# EAGLE library part TWR (library freescale)
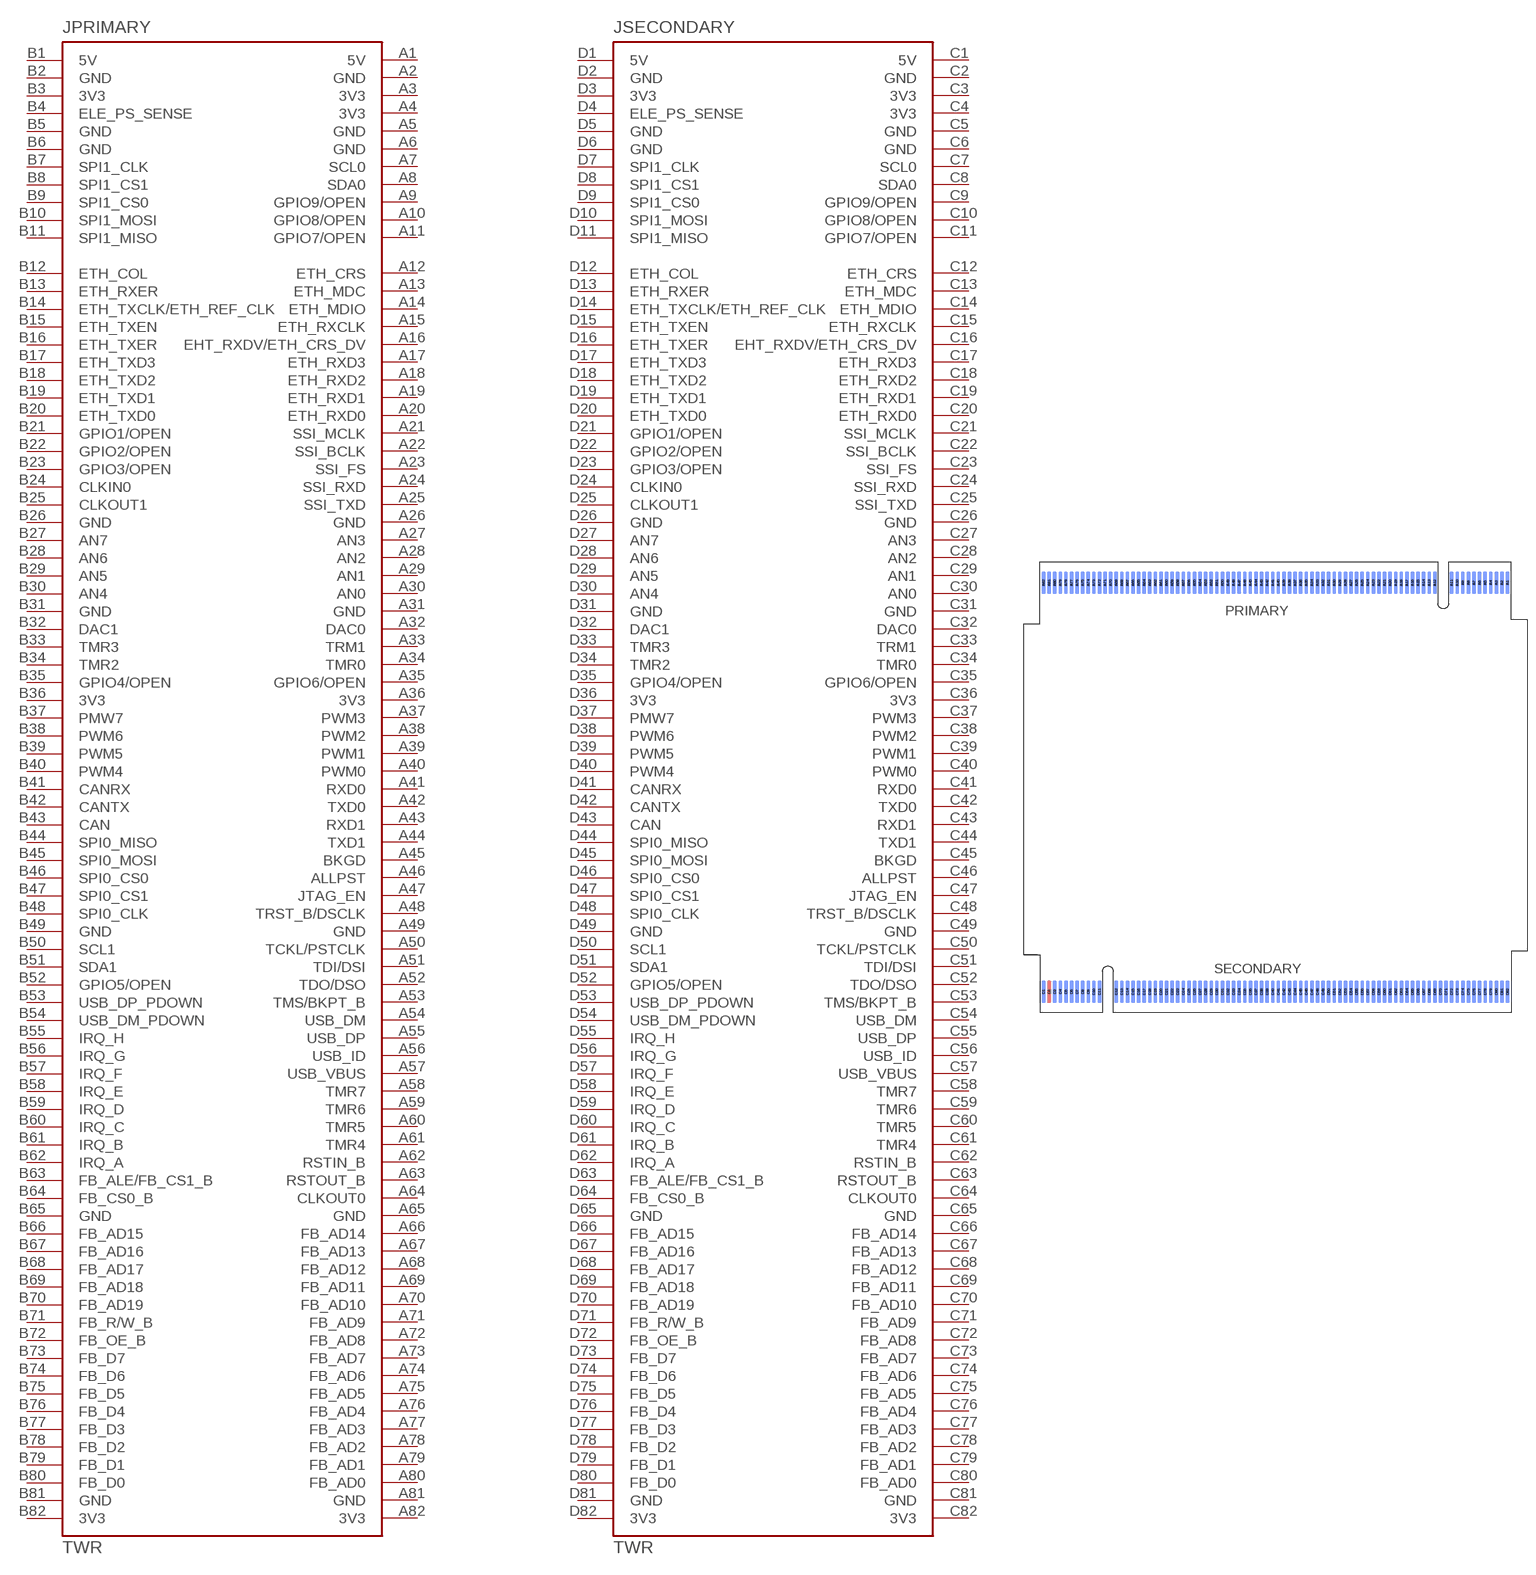
[diagram p10: symbol with the pads of TWR; footprint TWR]

Designator prefix J; gates PRIMARY=PCI-E SECONDARY=PCI-E

## TWR  [TWR]
A1  PRIMARY:5V  pas
A2  PRIMARY:GND  pas
A3  PRIMARY:3V3  pas
A4  PRIMARY:3V3  pas
A5  PRIMARY:GND  pas
A6  PRIMARY:GND  pas
A7  PRIMARY:SCL0  pas
A8  PRIMARY:SDA0  pas
A9  PRIMARY:GPIO9/OPEN  pas
A10  PRIMARY:GPIO8/OPEN  pas
A11  PRIMARY:GPIO7/OPEN  pas
A12  PRIMARY:ETH_CRS  pas
A13  PRIMARY:ETH_MDC  pas
A14  PRIMARY:ETH_MDIO  pas
A15  PRIMARY:ETH_RXCLK  pas
A16  PRIMARY:EHT_RXDV/ETH_CRS_DV  pas
A17  PRIMARY:ETH_RXD3  pas
A18  PRIMARY:ETH_RXD2  pas
A19  PRIMARY:ETH_RXD1  pas
A20  PRIMARY:ETH_RXD0  pas
A21  PRIMARY:SSI_MCLK  pas
A22  PRIMARY:SSI_BCLK  pas
A23  PRIMARY:SSI_FS  pas
A24  PRIMARY:SSI_RXD  pas
A25  PRIMARY:SSI_TXD  pas
A26  PRIMARY:GND  pas
A27  PRIMARY:AN3  pas
A28  PRIMARY:AN2  pas
A29  PRIMARY:AN1  pas
A30  PRIMARY:AN0  pas
A31  PRIMARY:GND  pas
A32  PRIMARY:DAC0  pas
A33  PRIMARY:TRM1  pas
A34  PRIMARY:TMR0  pas
A35  PRIMARY:GPIO6/OPEN  pas
A36  PRIMARY:3V3  pas
A37  PRIMARY:PWM3  pas
A38  PRIMARY:PWM2  pas
A39  PRIMARY:PWM1  pas
A40  PRIMARY:PWM0  pas
A41  PRIMARY:RXD0  pas
A42  PRIMARY:TXD0  pas
A43  PRIMARY:RXD1  pas
A44  PRIMARY:TXD1  pas
A45  PRIMARY:BKGD  pas
A46  PRIMARY:ALLPST  pas
A47  PRIMARY:JTAG_EN  pas
A48  PRIMARY:TRST_B/DSCLK  pas
A49  PRIMARY:GND  pas
A50  PRIMARY:TCKL/PSTCLK  pas
A51  PRIMARY:TDI/DSI  pas
A52  PRIMARY:TDO/DSO  pas
A53  PRIMARY:TMS/BKPT_B  pas
A54  PRIMARY:USB_DM  pas
A55  PRIMARY:USB_DP  pas
A56  PRIMARY:USB_ID  pas
A57  PRIMARY:USB_VBUS  pas
A58  PRIMARY:TMR7  pas
A59  PRIMARY:TMR6  pas
A60  PRIMARY:TMR5  pas
A61  PRIMARY:TMR4  pas
A62  PRIMARY:RSTIN_B  pas
A63  PRIMARY:RSTOUT_B  pas
A64  PRIMARY:CLKOUT0  pas
A65  PRIMARY:GND  pas
A66  PRIMARY:FB_AD14  pas
A67  PRIMARY:FB_AD13  pas
A68  PRIMARY:FB_AD12  pas
A69  PRIMARY:FB_AD11  pas
A70  PRIMARY:FB_AD10  pas
A71  PRIMARY:FB_AD9  pas
A72  PRIMARY:FB_AD8  pas
A73  PRIMARY:FB_AD7  pas
A74  PRIMARY:FB_AD6  pas
A75  PRIMARY:FB_AD5  pas
A76  PRIMARY:FB_AD4  pas
A77  PRIMARY:FB_AD3  pas
A78  PRIMARY:FB_AD2  pas
A79  PRIMARY:FB_AD1  pas
A80  PRIMARY:FB_AD0  pas
A81  PRIMARY:GND  pas
A82  PRIMARY:3V3  pas
B1  PRIMARY:5V  pas
B2  PRIMARY:GND  pas
B3  PRIMARY:3V3  pas
B4  PRIMARY:ELE_PS_SENSE  pas
B5  PRIMARY:GND  pas
B6  PRIMARY:GND  pas
B7  PRIMARY:SPI1_CLK  pas
B8  PRIMARY:SPI1_CS1  pas
B9  PRIMARY:SPI1_CS0  pas
B10  PRIMARY:SPI1_MOSI  pas
B11  PRIMARY:SPI1_MISO  pas
B12  PRIMARY:ETH_COL  pas
B13  PRIMARY:ETH_RXER  pas
B14  PRIMARY:ETH_TXCLK/ETH_REF_CLK  pas
B15  PRIMARY:ETH_TXEN  pas
B16  PRIMARY:ETH_TXER  pas
B17  PRIMARY:ETH_TXD3  pas
B18  PRIMARY:ETH_TXD2  pas
B19  PRIMARY:ETH_TXD1  pas
B20  PRIMARY:ETH_TXD0  pas
B21  PRIMARY:GPIO1/OPEN  pas
B22  PRIMARY:GPIO2/OPEN  pas
B23  PRIMARY:GPIO3/OPEN  pas
B24  PRIMARY:CLKIN0  pas
B25  PRIMARY:CLKOUT1  pas
B26  PRIMARY:GND  pas
B27  PRIMARY:AN7  pas
B28  PRIMARY:AN6  pas
B29  PRIMARY:AN5  pas
B30  PRIMARY:AN4  pas
B31  PRIMARY:GND  pas
B32  PRIMARY:DAC1  pas
B33  PRIMARY:TMR3  pas
B34  PRIMARY:TMR2  pas
B35  PRIMARY:GPIO4/OPEN  pas
B36  PRIMARY:3V3  pas
B37  PRIMARY:PMW7  pas
B38  PRIMARY:PWM6  pas
B39  PRIMARY:PWM5  pas
B40  PRIMARY:PWM4  pas
B41  PRIMARY:CANRX  pas
B42  PRIMARY:CANTX  pas
B43  PRIMARY:CAN  pas
B44  PRIMARY:SPI0_MISO  pas
B45  PRIMARY:SPI0_MOSI  pas
B46  PRIMARY:SPI0_CS0  pas
B47  PRIMARY:SPI0_CS1  pas
B48  PRIMARY:SPI0_CLK  pas
B49  PRIMARY:GND  pas
B50  PRIMARY:SCL1  pas
B51  PRIMARY:SDA1  pas
B52  PRIMARY:GPIO5/OPEN  pas
B53  PRIMARY:USB_DP_PDOWN  pas
B54  PRIMARY:USB_DM_PDOWN  pas
B55  PRIMARY:IRQ_H  pas
B56  PRIMARY:IRQ_G  pas
B57  PRIMARY:IRQ_F  pas
B58  PRIMARY:IRQ_E  pas
B59  PRIMARY:IRQ_D  pas
B60  PRIMARY:IRQ_C  pas
B61  PRIMARY:IRQ_B  pas
B62  PRIMARY:IRQ_A  pas
B63  PRIMARY:FB_ALE/FB_CS1_B  pas
B64  PRIMARY:FB_CS0_B  pas
B65  PRIMARY:GND  pas
B66  PRIMARY:FB_AD15  pas
B67  PRIMARY:FB_AD16  pas
B68  PRIMARY:FB_AD17  pas
B69  PRIMARY:FB_AD18  pas
B70  PRIMARY:FB_AD19  pas
B71  PRIMARY:FB_R/W_B  pas
B72  PRIMARY:FB_OE_B  pas
B73  PRIMARY:FB_D7  pas
B74  PRIMARY:FB_D6  pas
B75  PRIMARY:FB_D5  pas
B76  PRIMARY:FB_D4  pas
B77  PRIMARY:FB_D3  pas
B78  PRIMARY:FB_D2  pas
B79  PRIMARY:FB_D1  pas
B80  PRIMARY:FB_D0  pas
B81  PRIMARY:GND  pas
B82  PRIMARY:3V3  pas
C1  SECONDARY:5V  pas
C2  SECONDARY:GND  pas
C3  SECONDARY:3V3  pas
C4  SECONDARY:3V3  pas
C5  SECONDARY:GND  pas
C6  SECONDARY:GND  pas
C7  SECONDARY:SCL0  pas
C8  SECONDARY:SDA0  pas
C9  SECONDARY:GPIO9/OPEN  pas
C10  SECONDARY:GPIO8/OPEN  pas
C11  SECONDARY:GPIO7/OPEN  pas
C12  SECONDARY:ETH_CRS  pas
C13  SECONDARY:ETH_MDC  pas
C14  SECONDARY:ETH_MDIO  pas
C15  SECONDARY:ETH_RXCLK  pas
C16  SECONDARY:EHT_RXDV/ETH_CRS_DV  pas
C17  SECONDARY:ETH_RXD3  pas
C18  SECONDARY:ETH_RXD2  pas
C19  SECONDARY:ETH_RXD1  pas
C20  SECONDARY:ETH_RXD0  pas
C21  SECONDARY:SSI_MCLK  pas
C22  SECONDARY:SSI_BCLK  pas
C23  SECONDARY:SSI_FS  pas
C24  SECONDARY:SSI_RXD  pas
C25  SECONDARY:SSI_TXD  pas
C26  SECONDARY:GND  pas
C27  SECONDARY:AN3  pas
C28  SECONDARY:AN2  pas
C29  SECONDARY:AN1  pas
C30  SECONDARY:AN0  pas
C31  SECONDARY:GND  pas
C32  SECONDARY:DAC0  pas
C33  SECONDARY:TRM1  pas
C34  SECONDARY:TMR0  pas
C35  SECONDARY:GPIO6/OPEN  pas
C36  SECONDARY:3V3  pas
C37  SECONDARY:PWM3  pas
C38  SECONDARY:PWM2  pas
C39  SECONDARY:PWM1  pas
C40  SECONDARY:PWM0  pas
C41  SECONDARY:RXD0  pas
C42  SECONDARY:TXD0  pas
C43  SECONDARY:RXD1  pas
C44  SECONDARY:TXD1  pas
C45  SECONDARY:BKGD  pas
C46  SECONDARY:ALLPST  pas
C47  SECONDARY:JTAG_EN  pas
C48  SECONDARY:TRST_B/DSCLK  pas
C49  SECONDARY:GND  pas
C50  SECONDARY:TCKL/PSTCLK  pas
C51  SECONDARY:TDI/DSI  pas
C52  SECONDARY:TDO/DSO  pas
C53  SECONDARY:TMS/BKPT_B  pas
C54  SECONDARY:USB_DM  pas
C55  SECONDARY:USB_DP  pas
C56  SECONDARY:USB_ID  pas
C57  SECONDARY:USB_VBUS  pas
C58  SECONDARY:TMR7  pas
C59  SECONDARY:TMR6  pas
C60  SECONDARY:TMR5  pas
C61  SECONDARY:TMR4  pas
C62  SECONDARY:RSTIN_B  pas
C63  SECONDARY:RSTOUT_B  pas
C64  SECONDARY:CLKOUT0  pas
C65  SECONDARY:GND  pas
C66  SECONDARY:FB_AD14  pas
C67  SECONDARY:FB_AD13  pas
C68  SECONDARY:FB_AD12  pas
C69  SECONDARY:FB_AD11  pas
C70  SECONDARY:FB_AD10  pas
C71  SECONDARY:FB_AD9  pas
C72  SECONDARY:FB_AD8  pas
C73  SECONDARY:FB_AD7  pas
C74  SECONDARY:FB_AD6  pas
C75  SECONDARY:FB_AD5  pas
C76  SECONDARY:FB_AD4  pas
C77  SECONDARY:FB_AD3  pas
C78  SECONDARY:FB_AD2  pas
C79  SECONDARY:FB_AD1  pas
C80  SECONDARY:FB_AD0  pas
C81  SECONDARY:GND  pas
C82  SECONDARY:3V3  pas
D1  SECONDARY:5V  pas
D2  SECONDARY:GND  pas
D3  SECONDARY:3V3  pas
D4  SECONDARY:ELE_PS_SENSE  pas
D5  SECONDARY:GND  pas
D6  SECONDARY:GND  pas
D7  SECONDARY:SPI1_CLK  pas
D8  SECONDARY:SPI1_CS1  pas
D9  SECONDARY:SPI1_CS0  pas
D10  SECONDARY:SPI1_MOSI  pas
D11  SECONDARY:SPI1_MISO  pas
D12  SECONDARY:ETH_COL  pas
D13  SECONDARY:ETH_RXER  pas
D14  SECONDARY:ETH_TXCLK/ETH_REF_CLK  pas
D15  SECONDARY:ETH_TXEN  pas
D16  SECONDARY:ETH_TXER  pas
D17  SECONDARY:ETH_TXD3  pas
D18  SECONDARY:ETH_TXD2  pas
D19  SECONDARY:ETH_TXD1  pas
D20  SECONDARY:ETH_TXD0  pas
D21  SECONDARY:GPIO1/OPEN  pas
D22  SECONDARY:GPIO2/OPEN  pas
D23  SECONDARY:GPIO3/OPEN  pas
D24  SECONDARY:CLKIN0  pas
D25  SECONDARY:CLKOUT1  pas
D26  SECONDARY:GND  pas
D27  SECONDARY:AN7  pas
D28  SECONDARY:AN6  pas
D29  SECONDARY:AN5  pas
D30  SECONDARY:AN4  pas
D31  SECONDARY:GND  pas
D32  SECONDARY:DAC1  pas
D33  SECONDARY:TMR3  pas
D34  SECONDARY:TMR2  pas
D35  SECONDARY:GPIO4/OPEN  pas
D36  SECONDARY:3V3  pas
D37  SECONDARY:PMW7  pas
D38  SECONDARY:PWM6  pas
D39  SECONDARY:PWM5  pas
D40  SECONDARY:PWM4  pas
D41  SECONDARY:CANRX  pas
D42  SECONDARY:CANTX  pas
D43  SECONDARY:CAN  pas
D44  SECONDARY:SPI0_MISO  pas
D45  SECONDARY:SPI0_MOSI  pas
D46  SECONDARY:SPI0_CS0  pas
D47  SECONDARY:SPI0_CS1  pas
D48  SECONDARY:SPI0_CLK  pas
D49  SECONDARY:GND  pas
D50  SECONDARY:SCL1  pas
D51  SECONDARY:SDA1  pas
D52  SECONDARY:GPIO5/OPEN  pas
D53  SECONDARY:USB_DP_PDOWN  pas
D54  SECONDARY:USB_DM_PDOWN  pas
D55  SECONDARY:IRQ_H  pas
D56  SECONDARY:IRQ_G  pas
D57  SECONDARY:IRQ_F  pas
D58  SECONDARY:IRQ_E  pas
D59  SECONDARY:IRQ_D  pas
D60  SECONDARY:IRQ_C  pas
D61  SECONDARY:IRQ_B  pas
D62  SECONDARY:IRQ_A  pas
D63  SECONDARY:FB_ALE/FB_CS1_B  pas
D64  SECONDARY:FB_CS0_B  pas
D65  SECONDARY:GND  pas
D66  SECONDARY:FB_AD15  pas
D67  SECONDARY:FB_AD16  pas
D68  SECONDARY:FB_AD17  pas
D69  SECONDARY:FB_AD18  pas
D70  SECONDARY:FB_AD19  pas
D71  SECONDARY:FB_R/W_B  pas
D72  SECONDARY:FB_OE_B  pas
D73  SECONDARY:FB_D7  pas
D74  SECONDARY:FB_D6  pas
D75  SECONDARY:FB_D5  pas
D76  SECONDARY:FB_D4  pas
D77  SECONDARY:FB_D3  pas
D78  SECONDARY:FB_D2  pas
D79  SECONDARY:FB_D1  pas
D80  SECONDARY:FB_D0  pas
D81  SECONDARY:GND  pas
D82  SECONDARY:3V3  pas

## Footprint TWR (pad centres in mm)
smd 0.7 x 4 bottom: A1 86.492,76.895; A2 85.492,76.895; A3 84.492,76.895; A4 83.492,76.895; A5 82.492,76.895; A6 81.492,76.895; A7 80.492,76.895; A8 79.492,76.895; A9 78.492,76.895; A10 77.492,76.895; A11 76.492,76.895; A12 73.492,76.895; A13 72.492,76.895; A14 71.492,76.895; A15 70.492,76.895; A16 69.492,76.895; A17 68.492,76.895; A18 67.492,76.895; A19 66.492,76.895; A20 65.492,76.895; A21 64.492,76.895; A22 63.492,76.895; A23 62.492,76.895; A24 61.492,76.895; A25 60.492,76.895; A26 59.492,76.895; A27 58.492,76.895; A28 57.492,76.895; A29 56.492,76.895; A30 55.492,76.895; A31 54.492,76.895; A32 53.492,76.895; A33 52.492,76.895; A34 51.492,76.895; A35 50.492,76.895; A36 49.492,76.895; A37 48.492,76.895; A38 47.492,76.895; A39 46.492,76.895; A40 45.492,76.895; A41 44.492,76.895; A42 43.492,76.895; A43 42.492,76.895; A44 41.492,76.895; A45 40.492,76.895; A46 39.492,76.895; A47 38.492,76.895; A48 37.492,76.895; A49 36.492,76.895; A50 35.492,76.895; A51 34.492,76.895; A52 33.492,76.895; A53 32.492,76.895; A54 31.492,76.895; A55 30.492,76.895; A56 29.492,76.895; A57 28.492,76.895; A58 27.492,76.895; A59 26.492,76.895; A60 25.492,76.895; A61 24.492,76.895; A62 23.492,76.895; A63 22.492,76.895; A64 21.492,76.895; A65 20.492,76.895; A66 19.492,76.895; A67 18.492,76.895; A68 17.492,76.895; A69 16.492,76.895; A70 15.492,76.895; A71 14.492,76.895; A72 13.492,76.895; A73 12.492,76.895; A74 11.492,76.895; A75 10.492,76.895; A76 9.492,76.895; A77 8.492,76.895; A78 7.492,76.895; A79 6.492,76.895; A80 5.492,76.895; A81 4.492,76.895; A82 3.492,76.895; C1 3.5,3.75; C2 4.5,3.75; C3 5.5,3.75; C4 6.5,3.75; C5 7.5,3.75; C6 8.5,3.75; C7 9.5,3.75; C8 10.5,3.75; C9 11.5,3.75; C10 12.5,3.75; C11 13.5,3.75; C12 16.5,3.75; C13 17.5,3.75; C14 18.5,3.75; C15 19.5,3.75; C16 20.5,3.75; C17 21.5,3.75; C18 22.5,3.75; C19 23.5,3.75; C20 24.5,3.75; C21 25.5,3.75; C22 26.5,3.75; C23 27.5,3.75; C24 28.5,3.75; C25 29.5,3.75; C26 30.5,3.75; C27 31.5,3.75; C28 32.5,3.75; C29 33.5,3.75; C30 34.5,3.75; C31 35.5,3.75; C32 36.5,3.75; C33 37.5,3.75; C34 38.5,3.75; C35 39.5,3.75; C36 40.5,3.75; C37 41.5,3.75; C38 42.5,3.75; C39 43.5,3.75; C40 44.5,3.75; C41 45.5,3.75; C42 46.5,3.75; C43 47.5,3.75; C44 48.5,3.75; C45 49.5,3.75; C46 50.5,3.75; C47 51.5,3.75; C48 52.5,3.75; C49 53.5,3.75; C50 54.5,3.75; C51 55.5,3.75; C52 56.5,3.75; C53 57.5,3.75; C54 58.5,3.75; C55 59.5,3.75; C56 60.5,3.75; C57 61.5,3.75; C58 62.5,3.75; C59 63.5,3.75; C60 64.5,3.75; C61 65.5,3.75; C62 66.5,3.75; C63 67.5,3.75; C64 68.5,3.75; C65 69.5,3.75; C66 70.5,3.75; C67 71.5,3.75; C68 72.5,3.75; C69 73.5,3.75; C70 74.5,3.75; C71 75.5,3.75; C72 76.5,3.75; C73 77.5,3.75; C74 78.5,3.75; C75 79.5,3.75; C76 80.5,3.75; C77 81.5,3.75; C78 82.5,3.75; C79 83.5,3.75; C80 84.5,3.75; C81 85.5,3.75; C82 86.5,3.75
smd 0.7 x 4: B1 86.492,76.895; B2 85.492,76.895; B3 84.492,76.895; B4 83.492,76.895; B5 82.492,76.895; B6 81.492,76.895; B7 80.492,76.895; B8 79.492,76.895; B9 78.492,76.895; B10 77.492,76.895; B11 76.492,76.895; B12 73.492,76.895; B13 72.492,76.895; B14 71.492,76.895; B15 70.492,76.895; B16 69.492,76.895; B17 68.492,76.895; B18 67.492,76.895; B19 66.492,76.895; B20 65.492,76.895; B21 64.492,76.895; B22 63.492,76.895; B23 62.492,76.895; B24 61.492,76.895; B25 60.492,76.895; B26 59.492,76.895; B27 58.492,76.895; B28 57.492,76.895; B29 56.492,76.895; B30 55.492,76.895; B31 54.492,76.895; B32 53.492,76.895; B33 52.492,76.895; B34 51.492,76.895; B35 50.492,76.895; B36 49.492,76.895; B37 48.492,76.895; B38 47.492,76.895; B39 46.492,76.895; B40 45.492,76.895; B41 44.492,76.895; B42 43.492,76.895; B43 42.492,76.895; B44 41.492,76.895; B45 40.492,76.895; B46 39.492,76.895; B47 38.492,76.895; B48 37.492,76.895; B49 36.492,76.895; B50 35.492,76.895; B51 34.492,76.895; B52 33.492,76.895; B53 32.492,76.895; B54 31.492,76.895; B55 30.492,76.895; B56 29.492,76.895; B57 28.492,76.895; B58 27.492,76.895; B59 26.492,76.895; B60 25.492,76.895; B61 24.492,76.895; B62 23.492,76.895; B63 22.492,76.895; B64 21.492,76.895; B65 20.492,76.895; B66 19.492,76.895; B67 18.492,76.895; B68 17.492,76.895; B69 16.492,76.895; B70 15.492,76.895; B71 14.492,76.895; B72 13.492,76.895; B73 12.492,76.895; B74 11.492,76.895; B75 10.492,76.895; B76 9.492,76.895; B77 8.492,76.895; B78 7.492,76.895; B79 6.492,76.895; B80 5.492,76.895; B81 4.492,76.895; B82 3.492,76.895; D1 3.5,3.75; D2 4.5,3.75; D3 5.5,3.75; D4 6.5,3.75; D5 7.5,3.75; D6 8.5,3.75; D7 9.5,3.75; D8 10.5,3.75; D9 11.5,3.75; D10 12.5,3.75; D11 13.5,3.75; D12 16.5,3.75; D13 17.5,3.75; D14 18.5,3.75; D15 19.5,3.75; D16 20.5,3.75; D17 21.5,3.75; D18 22.5,3.75; D19 23.5,3.75; D20 24.5,3.75; D21 25.5,3.75; D22 26.5,3.75; D23 27.5,3.75; D24 28.5,3.75; D25 29.5,3.75; D26 30.5,3.75; D27 31.5,3.75; D28 32.5,3.75; D29 33.5,3.75; D30 34.5,3.75; D31 35.5,3.75; D32 36.5,3.75; D33 37.5,3.75; D34 38.5,3.75; D35 39.5,3.75; D36 40.5,3.75; D37 41.5,3.75; D38 42.5,3.75; D39 43.5,3.75; D40 44.5,3.75; D41 45.5,3.75; D42 46.5,3.75; D43 47.5,3.75; D44 48.5,3.75; D45 49.5,3.75; D46 50.5,3.75; D47 51.5,3.75; D48 52.5,3.75; D49 53.5,3.75; D50 54.5,3.75; D51 55.5,3.75; D52 56.5,3.75; D53 57.5,3.75; D54 58.5,3.75; D55 59.5,3.75; D56 60.5,3.75; D57 61.5,3.75; D58 62.5,3.75; D59 63.5,3.75; D60 64.5,3.75; D61 65.5,3.75; D62 66.5,3.75; D63 67.5,3.75; D64 68.5,3.75; D65 69.5,3.75; D66 70.5,3.75; D67 71.5,3.75; D68 72.5,3.75; D69 73.5,3.75; D70 74.5,3.75; D71 75.5,3.75; D72 76.5,3.75; D73 77.5,3.75; D74 78.5,3.75; D75 79.5,3.75; D76 80.5,3.75; D77 81.5,3.75; D78 82.5,3.75; D79 83.5,3.75; D80 84.5,3.75; D81 85.5,3.75; D82 86.5,3.75